# Altium schematic symbol library Capacitors.SchLib: 30 symbols
Pins are listed as number, name and electrical type; pins without a type are passive.

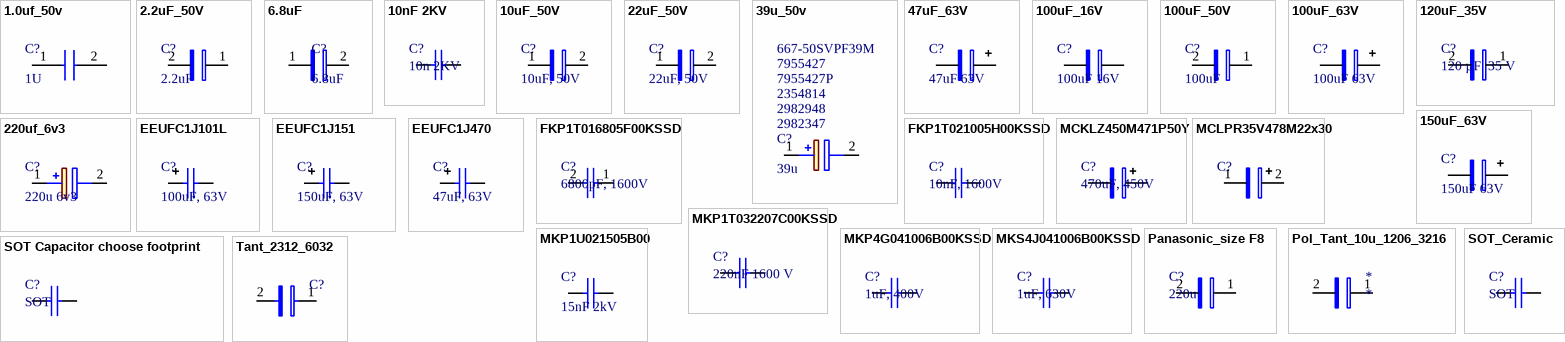
[diagram p0: symbols 1.0uf_50v to Tant_2312_6032]

## 1.0uf_50v
designator C?, comment 1U
Cap: 1 µF  Total Derated Cap: 1 µF  VDC: 50 V  ESR: 5.52 mΩ  Package: 0603 /; Supplier 1: Farnell; Supplier 2: Farnell; Supplier 3: Mouser; Supplier 4: Farnell; Supplier 5: Newark; Supplier 6: Element14; Supplier 7: Element14; Supplier Part Number 1: 2521974; Supplier Part Number 2: 2211179; Supplier Part Number 3: 810-C1608X5R1H105K; Supplier Part Number 4: 2211179RL; Supplier Part Number 5: 53W0134; Supplier Part Number 6: 2366561; Supplier Part Number 7: 2371979
pins: 1, 2

## 2.2uF_50V
designator C?, comment 2.2uF
Supplier 1: Farnell; Supplier Part Number 1: 9694536
footprint PANASONIC, SIZE B
pins: 1 "+ve electrode", 2 "-ve electrode"

## 6.8uF
designator C?
Capacitor, Electrolytic, SMD 2917; Supplier 1: Farnell; C?: 6.8uF
footprint SMD 2917 (SMD, EIA 2917, Metric 7343)
pins: 1 "-ve electrode", 2 "+ve electrode"

## 10nF 2KV
designator C?, comment 10n 2KV
footprint ALTIUM 1206_M
footprint Altium 1206_L
footprint ALTIUM 1206_N
pins: 1 "-ve electrode", 2 "-ve electrode"

## 10uF_50V
designator C?, comment 10uF, 50V
Supplier 1: Farnell; Supplier Part Number 1: 9695907
footprint PANASONIC, SIZE C
pins: 1 "-ve electrode", 2 "+ve electrode"

## 22uF_50V
designator C?, comment 22uF, 50V
Supplier 1: Farnell; Supplier Part Number 1: 2326151
footprint PANASONIC, Size D
pins: 1 "-ve electrode", 2 "+ve electrode"

## 39u_50v
designator C?, comment 39u  Supplier Part Number 1: 2982347  Supplier Part Number 2: 2982948  Supplier Part Number 3: 2354814  Supplier Part Number 4: 7955427P  Supplier Part Number 5: 7955427  Supplier Part Number 6: 667-50SVPF39M
Cap: 39 µF  Total Derated Cap: 39 µF  VDC: 50 V  ESR: 25 mΩ  Package: 8x11.9 /; Supplier 1: Farnell; Supplier 2: Farnell; Supplier 3: Farnell; Supplier 4: RSComponents; Supplier 5: RSComponents; Supplier 6: Mouser
footprint 50SVPK68M_case E12
pins: 1 +, 2 -

## 47uF_63V
designator C?, comment 47uF 63V
EEEFK1J470P; Supplier 1: Farnell; Supplier 2: RSComponents; Supplier Part Number 1: 9696032; Supplier Part Number 2: 708-3614P
footprint PANASONIC_SIZE F
pins: 1 "+ve electrode", 2 "-ve electrode"

## 100uF_16V
designator C?, comment 100uF 16V
100uF 16V, Size D; Supplier 1: Farnell; Supplier Part Number 1: 1244406
footprint PANASONIC, Size D
pins: 1 "+ve electrode", 2 "-ve electrode"

## 100uF_50V
designator C?, comment 100uF
Supplier 1: Farnell; Supplier Part Number 1: 1850114
footprint PANASONIC, SIZE D8
pins: 1 "+ve electrode", 2 "-ve electrode"

## 100uF_63V
designator C?, comment 100uF 63V
EEEFK1J101P; Supplier 1: Farnell; Supplier 2: RSComponents; Supplier Part Number 1: 9696040; Supplier Part Number 2: 7479090
footprint PANASONIC_SIZE G
pins: 1 "+ve electrode", 2 "-ve electrode"

## 120uF_35V
designator C?, comment 120 µF  35 V
footprint Electrolytic size F (Capacitor size F)
pins: 1 "+ve electrode", 2 "-ve electrode"

## 150uF_63V
designator C?, comment 150uF 63V
EEVFK1J151Q; Supplier 1: Farnell; Supplier 2: RSComponents; Supplier 3: Mouser; Supplier Part Number 1: 2326369; Supplier Part Number 2: 708-3636P; Supplier Part Number 3: 667-EEV-FK1J151Q
footprint PANASONIC_SIZE_H13 (Aluminum Electrolytic Capacitor, Body 13.50x13.50x14.00mm, IPC Medium Density)
pins: 1 "+ve electrode", 2 "-ve electrode"

## 220uf_6v3
designator C?, comment 220u 6v3
Cap: 220 µF  Total Derated Cap: 220 µF  VDC: 6.3 V  ESR: 15 mΩ  Package: 5x5.9 /; Supplier 1: Farnell; Supplier 2: Farnell; Supplier Part Number 1: 2982352; Supplier Part Number 2: 2354787
footprint CAPAE530X600N (panasonic SVPE series size B6)
pins: 1 +, 2 -

## EEUFC1J101L
designator C?, comment 100uF, 63V
Electrolytic Capacitor, 100 µF, 63 V, FC Series, ± 20%, Radial Leaded, 8 mm; Supplier 1: Mouser; Supplier 2: RSComponents; Supplier 3: Farnell; Supplier Part Number 1: 667-EEU-FC1J101L; Supplier Part Number 2: 572-287; Supplier Part Number 3: 1855195
footprint PANASONIC FC-A-8-15
pins: 1 "-ve electrode", 2 "-ve electrode"

## EEUFC1J151
designator C?, comment 150uF, 63V
Electrolytic Capacitor, 150 µF, 63 V, FC Series, ± 20%, Radial Leaded, 8 mm; Supplier 1: Mouser; Supplier 2: Farnell; Supplier 3: RSComponents; Supplier Part Number 1: 667-EEU-FC1J151; Supplier Part Number 2: 1848473; Supplier Part Number 3: 1073080
footprint PANASONIC FC-A-8-20
pins: 1 "-ve electrode", 2 "-ve electrode"

## EEUFC1J470
designator C?, comment 47uF, 63V
Electrolytic Capacitor, 47 µF, 63 V, FC Series, ± 20%, Radial Leaded, 8 mm; Supplier 1: Farnell; Supplier 2: RSComponents; Supplier Part Number 1: 1848470; Supplier Part Number 2: 6283863
footprint PANASONIC FC-A-8-11.5
pins: 1 "-ve electrode", 2 "-ve electrode"

## FKP1T016805F00KSSD
designator C?, comment 6800pF, 1600V
Film Capacitors 1600V 6800pF 10% PCM 22.5; Supplier 1: Mouser; Supplier 2: Octopart; Supplier Part Number 1: 505-FKP16800/1600/10; Supplier Part Number 2: Farnell - 1890215
footprint FKP1T016805F
pins: 1 "-ve electrode", 2 "-ve electrode"

## FKP1T021005H00KSSD
designator C?, comment 10nF, 1600V
Film Capacitors 0.01 uF 1600 VDC 0.1; Supplier 1: Mouser; Supplier Part Number 1: 505-FKP1T021005H00KS
footprint FKP1T021005H (Film Capacitors 0.01 uF 1600 VDC)
pins: 1 "-ve electrode", 2 "-ve electrode"

## MCKLZ450M471P50Y
designator C?, comment 470uF, 450V
footprint MCKLZ (Multicomp high value mains rated capaitor)
pins: 1 "+ve electrode", 2 "-ve electrode"

## MCLPR35V478M22x30
designator C?
Supplier 1: Farnell; Supplier Part Number 1: 9452842
footprint MCLPR_35v (Capacitor MCLPR from Multicomp)
pins: 1 "+ve electrode", 2 "-ve electrode"

## MKP1T032207C00KSSD
designator C?, comment 220nF 1600 V
220nF 1600 Volts 10%; Supplier 1: Mouser; Supplier Part Number 1: 505-MKP1T032207C00KS
footprint MKP1T032207C (.22uF 1600V)
pins: 1 "-ve electrode", 2 "-ve electrode"

## MKP1U021505B00
designator C?, comment 15nF 2kV
Supplier 1: Farnell; Supplier Part Number 1: 1890261
footprint MKP1U021505B00 (0.015uF 2kV Capacitor)
pins: 1 "-ve electrode", 2 "-ve electrode"

## MKP4G041006B00KSSD
designator C?, comment 1uF, 400V
Film Capacitors 1uF 400 VDC 10%; Supplier 1: Mouser; Supplier Part Number 1: 505-MKP4G041006B00KS
footprint MKP4G041006B (Film Capacitors 1.0 uF 400 VDC 10%)
pins: 1 "-ve electrode", 2 "-ve electrode"

## MKS4J041006B00KSSD
designator C?, comment 1uF, 630V
Film Capacitors 1uF 630 Volts 10%; Supplier 1: Mouser; Supplier Part Number 1: 505-MKS4J041006B00KS
footprint MKS4J041006B
pins: 1 "-ve electrode", 2 "-ve electrode"

## Panasonic_size F8
designator C?, comment 220u
Supplier 1: Farnell; Supplier Part Number 1: 2326216
footprint Electrolytic size F (Capacitor size F)
pins: 1 "+ve electrode", 2 "-ve electrode"

## Pol_Tant_10u_1206_3216
designator *
Supplier 1: Farnell; Supplier Part Number 1: 1457413
footprint Pol_Tant_1206_3216 (Molded Capacitor, 2-Leads, Body 2.84x1.60mm, IPC Medium Density)
pins: 1 "+ve electrode", 2 "-ve electrode"

## SOT Capacitor choose footprint
designator C?, comment SOT
SOT Capacitor choose footprint
footprint SOT_ceramic_0805 (Chip Capacitor SOT)
pins: 1 "-ve electrode", 2 "-ve electrode"

## SOT_Ceramic
designator C?, comment SOT
Value: SOT
footprint SOT_ceramic_0805 (Chip Capacitor SOT)
pins: 1 "-ve electrode", 2 "-ve electrode"

## Tant_2312_6032
designator C?  (value not drawn)
footprint Cap_pol_2312_6032 (Molded Capacitor, 2-Leads, Body 6.00x3.20mm, IPC Medium Density)
pins: 1 "+ve electrode", 2 "-ve electrode"